# EAGLE library part AS5047P (library oresat-ACS_driver_board)
Programable rotary encoder, 14 bit percision AS5047P-ATSM SPI output 14 bit percision-12 bit decimal simulated UVW coil output ABi quadrature output 28 Krpm maximum tracking speed Datasheet <https://ams.com/documents/20143/36005/AS5047P_DS000324_2-00.pdf>
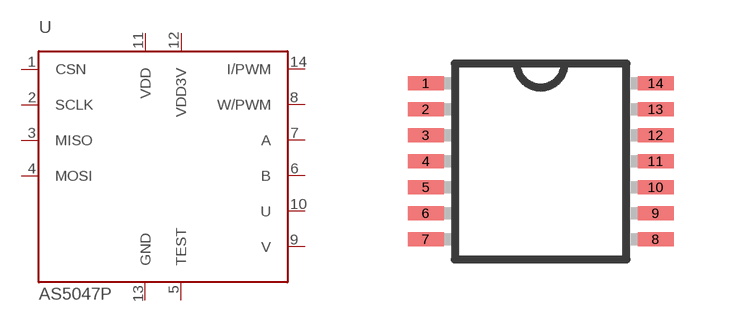
[diagram p3: symbol with the pads of TSSOP14; footprint TSSOP14]

Designator prefix U

## AS5047P (DESCRIPTION: Brushless motor controller; DIST: Digi-Key; DIST_PN: AS5047P-ATSMCT-ND; GENERIC: N; MFG: ams; MFG_PN: AS5047P-ATSM; P-NP: P)  [TSSOP14]
1  CSN  in
2  SCLK  in
3  MISO  out
4  MOSI  in
5  TEST  pwr
6  B  out
7  A  out
8  W/PWM  out
9  V  out
10  U  out
11  VDD  pwr
12  VDD3V  pwr
13  GND  pwr
14  I/PWM  out

## Footprint TSSOP14 (pad centres in mm)
14-Lead Thin Shrink Small Outline Package [TSSOP] Source: Analog Devices .. 780914713ADD8704_0.pdf
smd 0.9 x 0.35: 1 -2.875,1.95; 2 -2.875,1.3; 3 -2.875,0.65; 4 -2.875,0; 5 -2.875,-0.65; 6 -2.875,-1.3; 7 -2.875,-1.95; 8 2.875,-1.95; 9 2.875,-1.3; 10 2.875,-0.65; 11 2.875,0; 12 2.875,0.65; 13 2.875,1.3; 14 2.875,1.95